# EAGLE library part A6282EESTR-T (library Allegro_By_element14_Batch_1)
16-Channel Constant-Current LED Driver
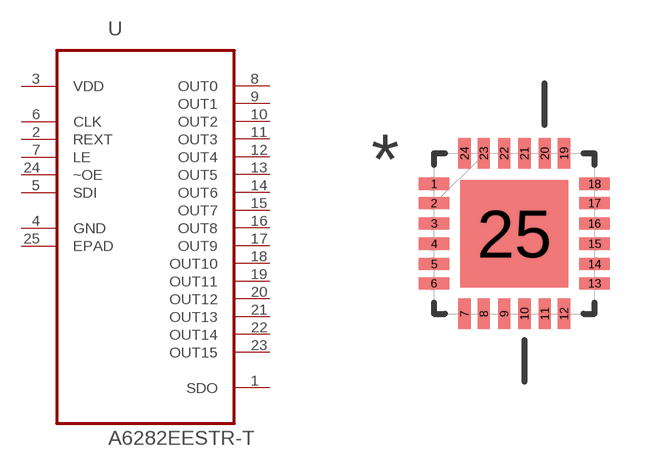
[diagram p24: symbol with the pads of QFN50P400X400X80-25N; footprint QFN50P400X400X80-25N]

Designator prefix U

## A6282EESTR-T (MPN: A6282EESTR-T; OC_FARNELL: 1688967; OC_NEWARK: 72M5990; PACKAGE: QFN-24; SUPPLIER: ALLEGRO MICROSYSTEMS)  [QFN50P400X400X80-25N]
1  SDO  out
2  REXT  in
3  VDD  pwr
4  GND  pas
5  SDI  in
6  CLK  in
7  LE  in
8  OUT0  out
9  OUT1  out
10  OUT2  out
11  OUT3  out
12  OUT4  out
13  OUT5  out
14  OUT6  out
15  OUT7  out
16  OUT8  out
17  OUT9  out
18  OUT10  out
19  OUT11  out
20  OUT12  out
21  OUT13  out
22  OUT14  out
23  OUT15  out
24  ~OE  in
25  EPAD  pas

## Footprint QFN50P400X400X80-25N (pad centres in mm)
smd 0.762 x 0.305: 1 -2.007,1.245; 2 -2.007,0.762; 3 -2.007,0.254; 4 -2.007,-0.254; 5 -2.007,-0.762; 6 -2.007,-1.245; 13 2.007,-1.245; 14 2.007,-0.762; 15 2.007,-0.254; 16 2.007,0.254; 17 2.007,0.762; 18 2.007,1.245
smd 0.305 x 0.762: 7 -1.245,-2.007; 8 -0.762,-2.007; 9 -0.254,-2.007; 10 0.254,-2.007; 11 0.762,-2.007; 12 1.245,-2.007; 19 1.245,2.007; 20 0.762,2.007; 21 0.254,2.007; 22 -0.254,2.007; 23 -0.762,2.007; 24 -1.245,2.007
smd 2.692 x 2.692: 25 0,0